# Altium schematic symbol library MOSFET,P Ch,20V,3.2A.Schlib: 1 symbol
Pins are listed as number, name and electrical type; pins without a type are passive.

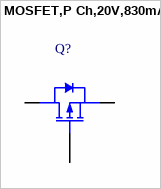
[diagram p0: symbol MOSFET,P Ch,20V,830mA]

## MOSFET,P Ch,20V,830mA
designator Q?
pins: 1 G, 2 S, 3 D